# Altium footprint library MU-RK3576J-MB.PcbLib: 1 footprints
Each footprint in its own frame and in the unit in brackets; x right, y up, seen from the top. Pads: shape width x height; smd on the part's side, far side on the other; paste and mask are expansions set on the pad; w line width, h text height; cw(c..) or ccw(c..) is an arc to the next point about the centre after c.
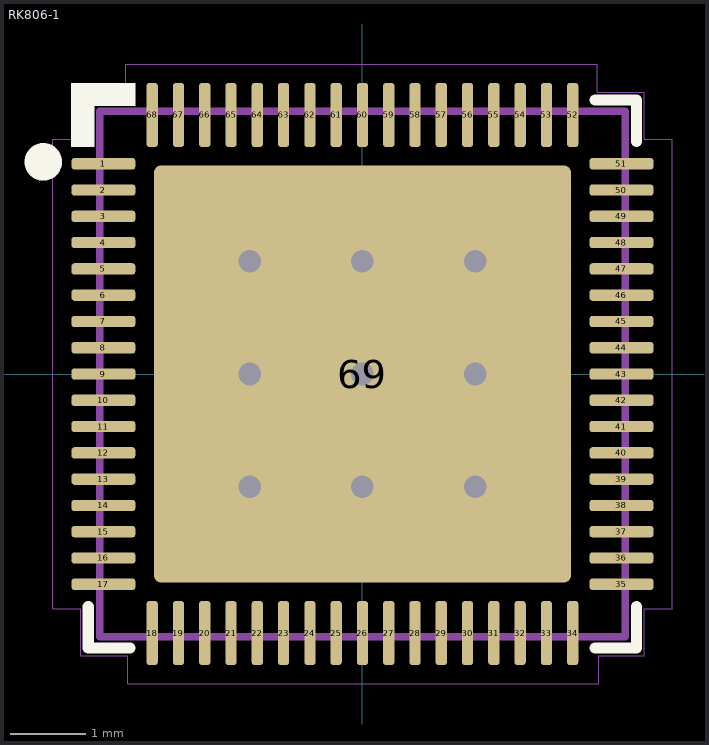
[diagram p0: the footprint, top view; thin cyan lines are the x and y axes]

## RK806-1 [mm]
pads (69):
  rrect50% 0.85x0.15 smd mask+0.05: 1(-3.45,2.8) 2(-3.45,2.45) 3(-3.45,2.1) 4(-3.45,1.75) 5(-3.45,1.4) 6(-3.45,1.05) 7(-3.45,0.7) 8(-3.45,0.35) 9(-3.45,0) 10(-3.45,-0.35) 11(-3.45,-0.7) 12(-3.45,-1.05) 13(-3.45,-1.4) 14(-3.45,-1.75) 15(-3.45,-2.1) 16(-3.45,-2.45) 17(-3.45,-2.8) 35(3.45,-2.8) 36(3.45,-2.45) 37(3.45,-2.1) 38(3.45,-1.75) 39(3.45,-1.4) 40(3.45,-1.05) 41(3.45,-0.7) 42(3.45,-0.35) 43(3.45,0) 44(3.45,0.35) 45(3.45,0.7) 46(3.45,1.05) 47(3.45,1.4) 48(3.45,1.75) 49(3.45,2.1) 50(3.45,2.45) 51(3.45,2.8)
  rrect50% 0.15x0.85 smd mask+0.05: 18(-2.8,-3.45) 19(-2.45,-3.45) 20(-2.1,-3.45) 21(-1.75,-3.45) 22(-1.4,-3.45) 23(-1.05,-3.45) 24(-0.7,-3.45) 25(-0.35,-3.45) 26(0,-3.45) 27(0.35,-3.45) 28(0.7,-3.45) 29(1.05,-3.45) 30(1.4,-3.45) 31(1.75,-3.45) 32(2.1,-3.45) 33(2.45,-3.45) 34(2.8,-3.45) 52(2.8,3.45) 53(2.45,3.45) 54(2.1,3.45) 55(1.75,3.45) 56(1.4,3.45) 57(1.05,3.45) 58(0.7,3.45) 59(0.35,3.45) 60(0,3.45) 61(-0.35,3.45) 62(-0.7,3.45) 63(-1.05,3.45) 64(-1.4,3.45) 65(-1.75,3.45) 66(-2.1,3.45) 67(-2.45,3.45) 68(-2.8,3.45)
  rrect3% 5.55x5.55 smd paste+0 mask+0.05: 69(0,0)
via 0,0 diameter 0.6 hole 0.3
via 0,1.5 diameter 0.6 hole 0.3
via 1.5,0 diameter 0.6 hole 0.3
via 1.5,1.5 diameter 0.6 hole 0.3
via -1.5,1.5 diameter 0.6 hole 0.3
via -1.5,0 diameter 0.6 hole 0.3
via -1.5,-1.5 diameter 0.6 hole 0.3
via 0,-1.5 diameter 0.6 hole 0.3
via 1.5,-1.5 diameter 0.6 hole 0.3
Top Overlay:
  circle w0.3: c-4.25,2.825 r0.1
  region: -3.575,3.575 -3.025,3.575 -3.025,3.875 -3.875,3.875 -3.875,3.025 -3.575,3.025
  lines w0.15: -3.65,-3.1 -3.65,-3.65 -3.1,-3.65 ; 3.1,-3.65 3.65,-3.65 3.65,-3.1 ; 3.1,3.65 3.65,3.65 3.65,3.1
Top Paste:
  rectangle: -2.75,1.7 -1.7,2.75
  rectangle: -2.75,0.2 -1.7,1.3
  rectangle: -1.3,0.2 -0.2,1.3
  rectangle: 0.2,0.2 1.3,1.3
  rectangle: -2.75,-1.3 -1.7,-0.2
  rectangle: -1.3,-1.3 -0.2,-0.2
  rectangle: 0.2,-1.3 1.3,-0.2
  region: -1.7,-2.75 -1.7,-1.7 -2.75,-1.7 -2.75,-2.75
  region: -0.2,-2.75 -0.2,-1.7 -1.3,-1.7 -1.3,-2.75
  region: 1.3,-2.75 1.3,-1.7 0.2,-1.7 0.2,-2.75
  region: 2.75,-1.7 1.7,-1.7 1.7,-2.75 2.75,-2.75
  region: 2.75,-0.2 1.7,-0.2 1.7,-1.3 2.75,-1.3
  region: 2.75,1.3 1.7,1.3 1.7,0.2 2.75,0.2
  region: 1.7,2.75 1.7,1.7 2.75,1.7 2.75,2.75
  region: 0.2,2.75 0.2,1.7 1.3,1.7 1.3,2.75
  region: -1.3,2.75 -1.3,1.7 -0.2,1.7 -0.2,2.75
Top Component Center:
  lines w0: -4.125,-3.125 -3.75,-3.125 -3.75,-3.75 -3.125,-3.75 -3.125,-4.125 3.15,-4.125 3.15,-3.75 3.75,-3.75 3.75,-3.125 4.125,-3.125 4.125,3.125 3.75,3.125 3.75,3.75 3.125,3.75 3.125,4.125 -3.15,4.125 -3.15,3.75 -3.75,3.75 -3.75,3.125 -4.125,3.125 -4.125,-3.125
Bottom 3D Body:
  lines w0.2: -1,0 1,0 ; 0,-1 0,1
Top Assembly:
  lines w0.1: -3.5,-3.5 3.5,-3.5 3.5,3.5 -3.5,3.5 -3.5,-3.5
Top Designator:
  text ".Designator" at -3.093,-0.328 h1.5
3D body "qfn35p700x700x90-69_hsn.stp": height 0.9, standoff 0, extent -3.5,-3.5 3.5,3.5